# EAGLE library part MY_MICROSD_CARD (library smylbr)
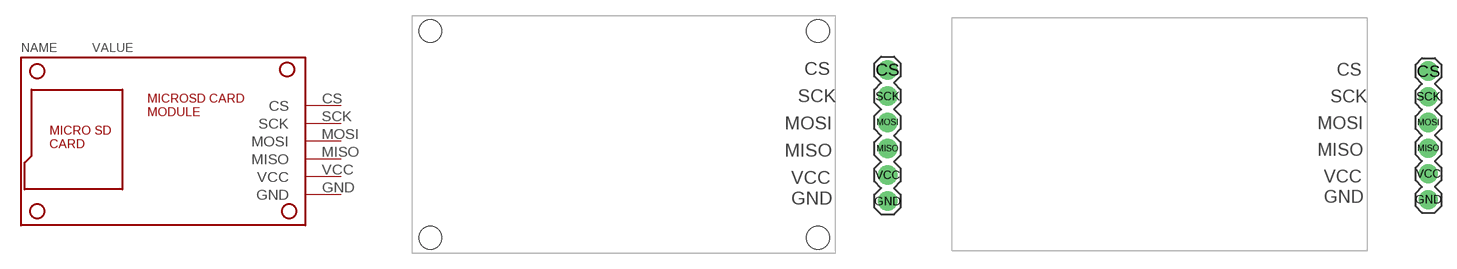
[diagram p4: symbol with the pads of MICROSD_CARD; footprints MICROSD_CARD, MICROSD_CARD1.1]

Designator prefix -

## MY_MICROSD_CARD  [MICROSD_CARD]
CS  CS
GND  GND
MISO  MISO
MOSI  MOSI
SCK  SCK
VCC  VCC

## MY_MICROSD_CARDSAN1.1_NO_HOLE  [MICROSD_CARD1.1]
Pads as for MICROSD_CARD

## Footprint MICROSD_CARD (pad centres in mm)
drill 1.016 pad 1.88: CS 3.815,6.105; GND 3.815,-6.595; MISO 3.815,-1.515; MOSI 3.815,1.025; SCK 3.815,3.565; VCC 3.815,-4.055
hole 2.2 at -40.425,9.865
hole 2.2 at -2.925,9.865
hole 2.2 at -2.925,-10.135
hole 2.2 at -40.425,-10.135

## Footprint MICROSD_CARD1.1 (pad centres in mm)
drill 1.016 pad 1.88: CS 17.135,6.835; GND 17.135,-5.865; MISO 17.135,-0.785; MOSI 17.135,1.755; SCK 17.135,4.295; VCC 17.135,-3.325